# Altium footprint library Connector_PinSocket_2.00mm.PcbLib: 278 footprints (part 15 of 18)
Each footprint in its own frame and in the unit in brackets; x right, y up, seen from the top. Pads: shape width x height; smd on the part's side, far side on the other; paste and mask are expansions set on the pad; w line width, h text height; cw(c..) or ccw(c..) is an arc to the next point about the centre after c.
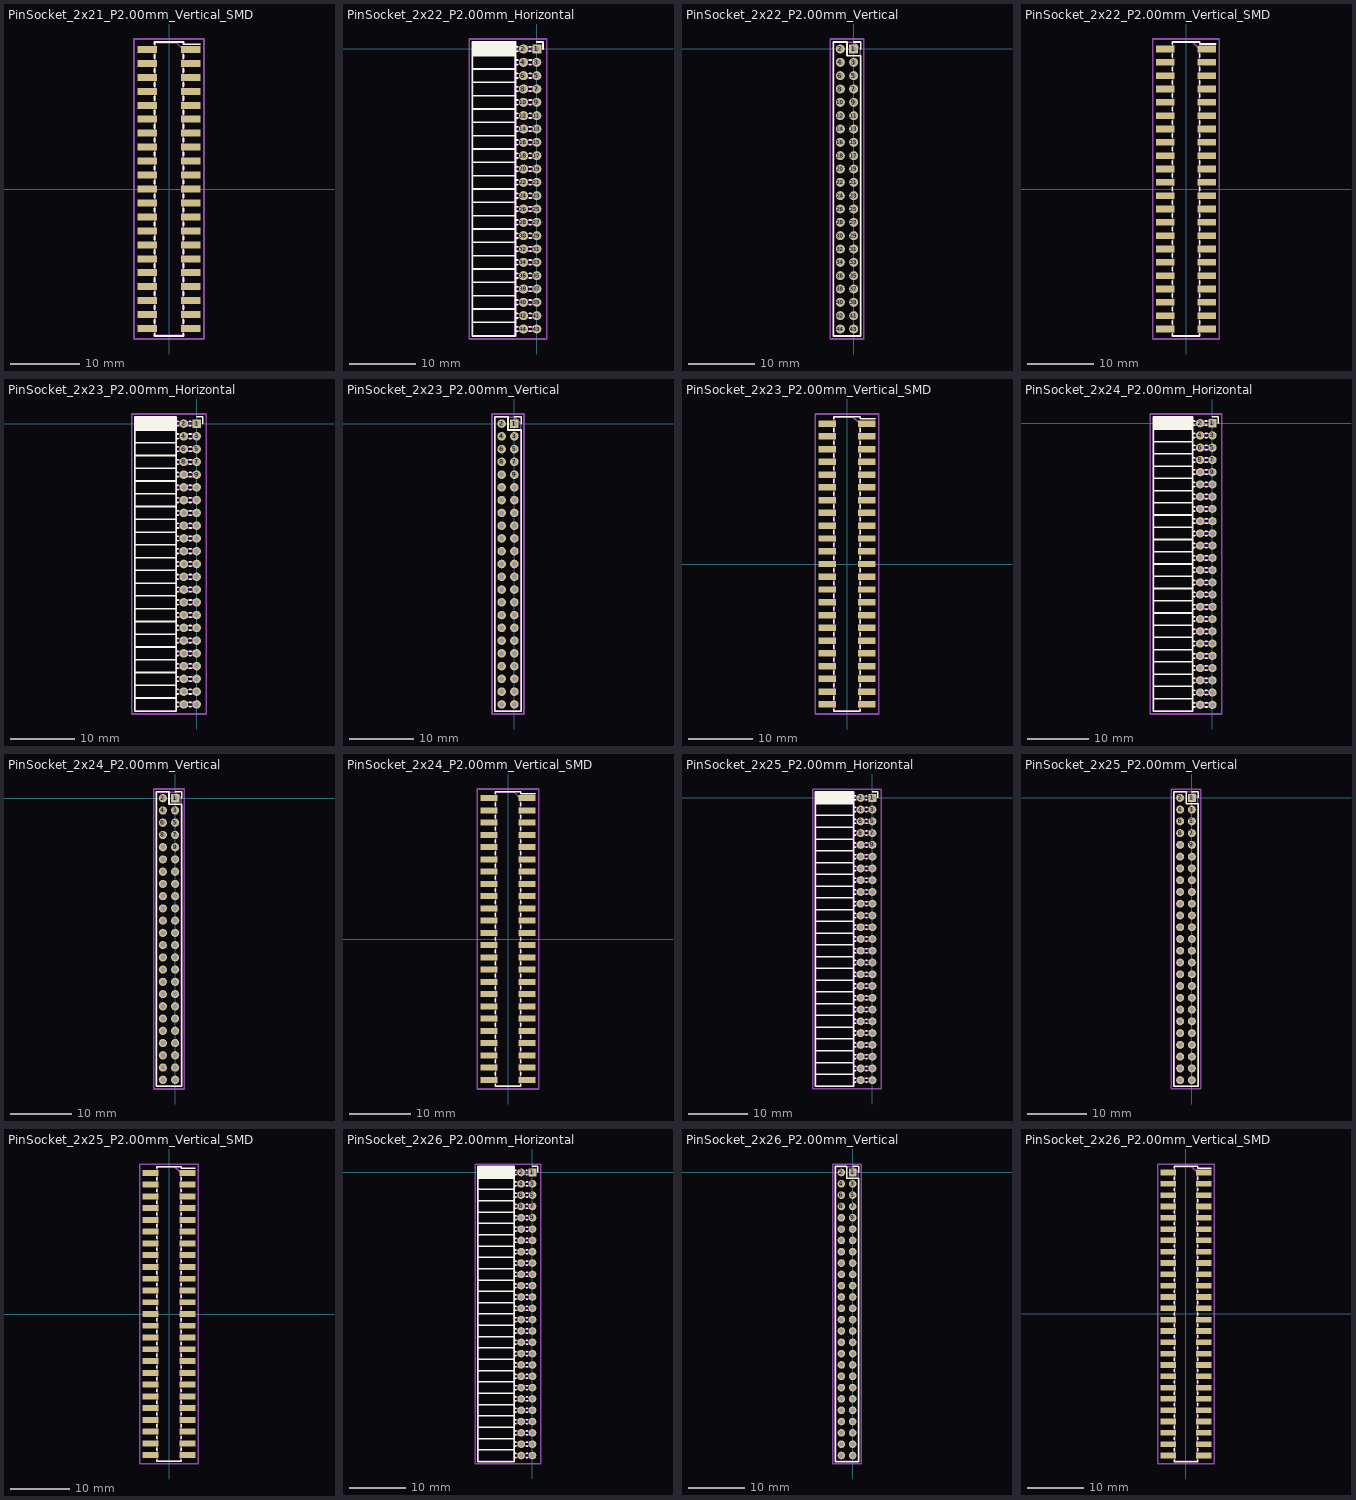
[diagram p14: the footprints below, top view; thin cyan lines are the x and y axes]

## PinSocket_2x21_P2.00mm_Vertical_SMD [mm]
pads (42):
  rect 2.75x1 smd: 1(3.125,20) 2(-3.125,20) 3(3.125,18) 4(-3.125,18) 5(3.125,16) 6(-3.125,16) 7(3.125,14) 8(-3.125,14) 9(3.125,12) 10(-3.125,12) 11(3.125,10) 12(-3.125,10) 13(3.125,8) 14(-3.125,8) 15(3.125,6) 16(-3.125,6) 17(3.125,4) 18(-3.125,4) 19(3.125,2) 20(-3.125,2) 21(3.125,0) 22(-3.125,0) 23(3.125,-2) 24(-3.125,-2) 25(3.125,-4) 26(-3.125,-4) 27(3.125,-6) 28(-3.125,-6) 29(3.125,-8) 30(-3.125,-8) 31(3.125,-10) 32(-3.125,-10) 33(3.125,-12) 34(-3.125,-12) 35(3.125,-14) 36(-3.125,-14) 37(3.125,-16) 38(-3.125,-16) 39(3.125,-18) 40(-3.125,-18) 41(3.125,-20) 42(-3.125,-20)
F.SilkS:
  lines w0.254: -2.06,-20.76 -2.06,-21.06 2.06,-21.06 2.06,-20.76 ; -2.06,-19.24 -2.06,-18.76 ; -2.06,-17.24 -2.06,-16.76 ; -2.06,-15.24 -2.06,-14.76 ; -2.06,-13.24 -2.06,-12.76 ; -2.06,-11.24 -2.06,-10.76 ; -2.06,-9.24 -2.06,-8.76 ; -2.06,-7.24 -2.06,-6.76 ; -2.06,-5.24 -2.06,-4.76 ; -2.06,-3.24 -2.06,-2.76 ; -2.06,-1.24 -2.06,-0.76 ; -2.06,0.76 -2.06,1.24 ; -2.06,2.76 -2.06,3.24 ; -2.06,4.76 -2.06,5.24 ; -2.06,6.76 -2.06,7.24 ; -2.06,8.76 -2.06,9.24 ; -2.06,10.76 -2.06,11.24 ; -2.06,12.76 -2.06,13.24 ; -2.06,14.76 -2.06,15.24 ; -2.06,16.76 -2.06,17.24 ; -2.06,18.76 -2.06,19.24 ; -2.06,20.76 -2.06,21.06 2.06,21.06 2.06,20.76 4.44,20.76 ; 2.06,-19.24 2.06,-18.76 ; 2.06,-17.24 2.06,-16.76 ; 2.06,-15.24 2.06,-14.76 ; 2.06,-13.24 2.06,-12.76 ; 2.06,-11.24 2.06,-10.76 ; 2.06,-9.24 2.06,-8.76 ; 2.06,-7.24 2.06,-6.76 ; 2.06,-5.24 2.06,-4.76 ; 2.06,-3.24 2.06,-2.76 ; 2.06,-1.24 2.06,-0.76 ; 2.06,0.76 2.06,1.24 ; 2.06,2.76 2.06,3.24 ; 2.06,4.76 2.06,5.24 ; 2.06,6.76 2.06,7.24 ; 2.06,8.76 2.06,9.24 ; 2.06,10.76 2.06,11.24 ; 2.06,12.76 2.06,13.24 ; 2.06,14.76 2.06,15.24 ; 2.06,16.76 2.06,17.24 ; 2.06,18.76 2.06,19.24
Top Assembly:
  lines w0.254: -2,-20.25 -3,-20.25 -3,-19.75 -2,-19.75 ; -2,-18.25 -3,-18.25 -3,-17.75 -2,-17.75 ; -2,-16.25 -3,-16.25 -3,-15.75 -2,-15.75 ; -2,-14.25 -3,-14.25 -3,-13.75 -2,-13.75 ; -2,-12.25 -3,-12.25 -3,-11.75 -2,-11.75 ; -2,-10.25 -3,-10.25 -3,-9.75 -2,-9.75 ; -2,-8.25 -3,-8.25 -3,-7.75 -2,-7.75 ; -2,-6.25 -3,-6.25 -3,-5.75 -2,-5.75 ; -2,-4.25 -3,-4.25 -3,-3.75 -2,-3.75 ; -2,-2.25 -3,-2.25 -3,-1.75 -2,-1.75 ; -2,-0.25 -3,-0.25 -3,0.25 -2,0.25 ; -2,1.75 -3,1.75 -3,2.25 -2,2.25 ; -2,3.75 -3,3.75 -3,4.25 -2,4.25 ; -2,5.75 -3,5.75 -3,6.25 -2,6.25 ; -2,7.75 -3,7.75 -3,8.25 -2,8.25 ; -2,9.75 -3,9.75 -3,10.25 -2,10.25 ; -2,11.75 -3,11.75 -3,12.25 -2,12.25 ; -2,13.75 -3,13.75 -3,14.25 -2,14.25 ; -2,15.75 -3,15.75 -3,16.25 -2,16.25 ; -2,17.75 -3,17.75 -3,18.25 -2,18.25 ; -2,19.75 -3,19.75 -3,20.25 -2,20.25 ; 2,-20.25 3,-20.25 3,-19.75 2,-19.75 ; 2,-18.25 3,-18.25 3,-17.75 2,-17.75 ; 2,-16.25 3,-16.25 3,-15.75 2,-15.75 ; 2,-14.25 3,-14.25 3,-13.75 2,-13.75 ; 2,-12.25 3,-12.25 3,-11.75 2,-11.75 ; 2,-10.25 3,-10.25 3,-9.75 2,-9.75 ; 2,-8.25 3,-8.25 3,-7.75 2,-7.75 ; 2,-6.25 3,-6.25 3,-5.75 2,-5.75 ; 2,-4.25 3,-4.25 3,-3.75 2,-3.75 ; 2,-2.25 3,-2.25 3,-1.75 2,-1.75 ; 2,-0.25 3,-0.25 3,0.25 2,0.25 ; 2,1.75 3,1.75 3,2.25 2,2.25 ; 2,3.75 3,3.75 3,4.25 2,4.25 ; 2,5.75 3,5.75 3,6.25 2,6.25 ; 2,7.75 3,7.75 3,8.25 2,8.25 ; 2,9.75 3,9.75 3,10.25 2,10.25 ; 2,11.75 3,11.75 3,12.25 2,12.25 ; 2,13.75 3,13.75 3,14.25 2,14.25 ; 2,15.75 3,15.75 3,16.25 2,16.25 ; 2,17.75 3,17.75 3,18.25 2,18.25 ; 2,19.75 3,19.75 3,20.25 2,20.25 ; -2,-21 2,-21 2,20 1,21 -2,21 -2,-21
  text "'.Designator'" at 0.84,-4.047 h1
Top Courtyard:
  lines w0.254: -5,-21.5 5,-21.5 5,21.5 -5,21.5 -5,-21.5
Top Designator:
  text ".Designator" at -7.618,-0.508 h1.52

## PinSocket_2x22_P2.00mm_Horizontal [mm]
pads (44):
  rect 1.35x1.35 hole 0.8: 1(0,0)
  round 1.35 hole 0.8: 2(-2,0) 3(0,-2) 4(-2,-2) 5(0,-4) 6(-2,-4) 7(0,-6) 8(-2,-6) 9(0,-8) 10(-2,-8) 11(0,-10) 12(-2,-10) 13(0,-12) 14(-2,-12) 15(0,-14) 16(-2,-14) 17(0,-16) 18(-2,-16) 19(0,-18) 20(-2,-18) 21(0,-20) 22(-2,-20) 23(0,-22) 24(-2,-22) 25(0,-24) 26(-2,-24) 27(0,-26) 28(-2,-26) 29(0,-28) 30(-2,-28) 31(0,-30) 32(-2,-30) 33(0,-32) 34(-2,-32) 35(0,-34) 36(-2,-34) 37(0,-36) 38(-2,-36) 39(0,-38) 40(-2,-38) 41(0,-40) 42(-2,-40) 43(0,-42) 44(-2,-42)
F.SilkS:
  lines w0.254: -9.68,-41 -3.21,-41 ; -9.68,-39 -3.21,-39 ; -9.68,-37 -3.21,-37 ; -9.68,-35 -3.21,-35 ; -9.68,-33 -3.21,-33 ; -9.68,-31 -3.21,-31 ; -9.68,-29 -3.21,-29 ; -9.68,-27 -3.21,-27 ; -9.68,-25 -3.21,-25 ; -9.68,-23 -3.21,-23 ; -9.68,-21 -3.21,-21 ; -9.68,-19 -3.21,-19 ; -9.68,-17 -3.21,-17 ; -9.68,-15 -3.21,-15 ; -9.68,-13 -3.21,-13 ; -9.68,-11 -3.21,-11 ; -9.68,-9 -3.21,-9 ; -9.68,-7 -3.21,-7 ; -9.68,-5 -3.21,-5 ; -9.68,-3 -3.21,-3 ; -9.68,-1 -3.21,-1 ; -9.68,-0.886 -3.21,-0.886 ; -9.68,-0.772 -3.21,-0.772 ; -9.68,-0.658 -3.21,-0.658 ; -9.68,-0.544 -3.21,-0.544 ; -9.68,-0.429 -3.21,-0.429 ; -9.68,-0.315 -3.21,-0.315 ; -9.68,-0.201 -3.21,-0.201 ; -9.68,-0.087 -3.21,-0.087 ; -9.68,0.027 -3.21,0.027 ; -9.68,0.141 -3.21,0.141 ; -9.68,0.255 -3.21,0.255 ; -9.68,0.369 -3.21,0.369 ; -9.68,0.484 -3.21,0.484 ; -9.68,0.598 -3.21,0.598 ; -9.68,0.712 -3.21,0.712 ; -9.68,0.826 -3.21,0.826 ; -9.68,0.94 -3.21,0.94 ; -3.21,-42.36 -2.863,-42.36 ; -3.21,-41.64 -2.863,-41.64 ; -3.21,-40.36 -2.863,-40.36 ; -3.21,-39.64 -2.863,-39.64 ; -3.21,-38.36 -2.863,-38.36 ; -3.21,-37.64 -2.863,-37.64 ; -3.21,-36.36 -2.863,-36.36 ; -3.21,-35.64 -2.863,-35.64 ; -3.21,-34.36 -2.863,-34.36 ; -3.21,-33.64 -2.863,-33.64 ; -3.21,-32.36 -2.863,-32.36 ; -3.21,-31.64 -2.863,-31.64 ; -3.21,-30.36 -2.863,-30.36 ; -3.21,-29.64 -2.863,-29.64 ; -3.21,-28.36 -2.863,-28.36 ; -3.21,-27.64 -2.863,-27.64 ; -3.21,-26.36 -2.863,-26.36 ; -3.21,-25.64 -2.863,-25.64 ; -3.21,-24.36 -2.863,-24.36 ; -3.21,-23.64 -2.863,-23.64 ; -3.21,-22.36 -2.863,-22.36 ; -3.21,-21.64 -2.863,-21.64 ; -3.21,-20.36 -2.863,-20.36 ; -3.21,-19.64 -2.863,-19.64 ; -3.21,-18.36 -2.863,-18.36 ; -3.21,-17.64 -2.863,-17.64 ; -3.21,-16.36 -2.863,-16.36 ; -3.21,-15.64 -2.863,-15.64 ; -3.21,-14.36 -2.863,-14.36 ; -3.21,-13.64 -2.863,-13.64 ; -3.21,-12.36 -2.863,-12.36 ; -3.21,-11.64 -2.863,-11.64 ; -3.21,-10.36 -2.863,-10.36 ; -3.21,-9.64 -2.863,-9.64 ; -3.21,-8.36 -2.863,-8.36 ; -3.21,-7.64 -2.863,-7.64 ; -3.21,-6.36 -2.863,-6.36 ; -3.21,-5.64 -2.863,-5.64 ; -3.21,-4.36 -2.863,-4.36 ; -3.21,-3.64 -2.863,-3.64 ; -3.21,-2.36 -2.863,-2.36 ; -3.21,-1.64 -2.863,-1.64 ; -3.21,-0.36 -2.863,-0.36 ; -3.21,0.36 -2.863,0.36 ; -1.137,-42.36 -0.863,-42.36 ; -1.137,-41.64 -0.863,-41.64 ; -1.137,-40.36 -0.863,-40.36 ; -1.137,-39.64 -0.863,-39.64 ; -1.137,-38.36 -0.863,-38.36 ; -1.137,-37.64 -0.863,-37.64 ; -1.137,-36.36 -0.863,-36.36 ; -1.137,-35.64 -0.863,-35.64 ; -1.137,-34.36 -0.863,-34.36 ; -1.137,-33.64 -0.863,-33.64 ; -1.137,-32.36 -0.863,-32.36 ; -1.137,-31.64 -0.863,-31.64 ; -1.137,-30.36 -0.863,-30.36 ; -1.137,-29.64 -0.863,-29.64 ; -1.137,-28.36 -0.863,-28.36 ; -1.137,-27.64 -0.863,-27.64 ; -1.137,-26.36 -0.863,-26.36 ; -1.137,-25.64 -0.863,-25.64 ; -1.137,-24.36 -0.863,-24.36 ; -1.137,-23.64 -0.863,-23.64 ; -1.137,-22.36 -0.863,-22.36 ; -1.137,-21.64 -0.863,-21.64 ; -1.137,-20.36 -0.863,-20.36 ; -1.137,-19.64 -0.863,-19.64 ; -1.137,-18.36 -0.863,-18.36 ; -1.137,-17.64 -0.863,-17.64 ; -1.137,-16.36 -0.863,-16.36 ; -1.137,-15.64 -0.863,-15.64 ; -1.137,-14.36 -0.863,-14.36 ; -1.137,-13.64 -0.863,-13.64 ; -1.137,-12.36 -0.863,-12.36 ; -1.137,-11.64 -0.863,-11.64 ; -1.137,-10.36 -0.863,-10.36 ; -1.137,-9.64 -0.863,-9.64 ; -1.137,-8.36 -0.863,-8.36 ; -1.137,-7.64 -0.863,-7.64 ; -1.137,-6.36 -0.863,-6.36 ; -1.137,-5.64 -0.863,-5.64 ; -1.137,-4.36 -0.863,-4.36 ; -1.137,-3.64 -0.863,-3.64 ; -1.137,-2.36 -0.863,-2.36 ; -1.137,-1.64 -0.863,-1.64 ; -1.137,-0.36 -0.935,-0.36 ; -1.137,0.36 -0.935,0.36 ; 0,1.06 0.935,1.06 0.935,0 ; -9.68,-43.06 -3.21,-43.06 -3.21,1.06 -9.68,1.06 -9.68,-43.06
Top Assembly:
  lines w0.254: -3.27,-42.3 0,-42.3 0,-41.7 -3.27,-41.7 ; -3.27,-40.3 0,-40.3 0,-39.7 -3.27,-39.7 ; -3.27,-38.3 0,-38.3 0,-37.7 -3.27,-37.7 ; -3.27,-36.3 0,-36.3 0,-35.7 -3.27,-35.7 ; -3.27,-34.3 0,-34.3 0,-33.7 -3.27,-33.7 ; -3.27,-32.3 0,-32.3 0,-31.7 -3.27,-31.7 ; -3.27,-30.3 0,-30.3 0,-29.7 -3.27,-29.7 ; -3.27,-28.3 0,-28.3 0,-27.7 -3.27,-27.7 ; -3.27,-26.3 0,-26.3 0,-25.7 -3.27,-25.7 ; -3.27,-24.3 0,-24.3 0,-23.7 -3.27,-23.7 ; -3.27,-22.3 0,-22.3 0,-21.7 -3.27,-21.7 ; -3.27,-20.3 0,-20.3 0,-19.7 -3.27,-19.7 ; -3.27,-18.3 0,-18.3 0,-17.7 -3.27,-17.7 ; -3.27,-16.3 0,-16.3 0,-15.7 -3.27,-15.7 ; -3.27,-14.3 0,-14.3 0,-13.7 -3.27,-13.7 ; -3.27,-12.3 0,-12.3 0,-11.7 -3.27,-11.7 ; -3.27,-10.3 0,-10.3 0,-9.7 -3.27,-9.7 ; -3.27,-8.3 0,-8.3 0,-7.7 -3.27,-7.7 ; -3.27,-6.3 0,-6.3 0,-5.7 -3.27,-5.7 ; -3.27,-4.3 0,-4.3 0,-3.7 -3.27,-3.7 ; -3.27,-2.3 0,-2.3 0,-1.7 -3.27,-1.7 ; -3.27,-0.3 0,-0.3 0,0.3 -3.27,0.3 ; -3.27,0.3 -3.27,-43 -9.62,-43 -9.62,1 -3.97,1 -3.27,0.3
  text "'.Designator'" at -5.605,-25.047 h1
Top Courtyard:
  lines w0.254: -10.15,-43.5 1.5,-43.5 1.5,1.5 -10.15,1.5 -10.15,-43.5
Top Designator:
  text ".Designator" at -11.943,-21.508 h1.52

## PinSocket_2x22_P2.00mm_Vertical [mm]
pads (44):
  rect 1.35x1.35 hole 0.8: 1(0,0)
  round 1.35 hole 0.8: 2(-2,0) 3(0,-2) 4(-2,-2) 5(0,-4) 6(-2,-4) 7(0,-6) 8(-2,-6) 9(0,-8) 10(-2,-8) 11(0,-10) 12(-2,-10) 13(0,-12) 14(-2,-12) 15(0,-14) 16(-2,-14) 17(0,-16) 18(-2,-16) 19(0,-18) 20(-2,-18) 21(0,-20) 22(-2,-20) 23(0,-22) 24(-2,-22) 25(0,-24) 26(-2,-24) 27(0,-26) 28(-2,-26) 29(0,-28) 30(-2,-28) 31(0,-30) 32(-2,-30) 33(0,-32) 34(-2,-32) 35(0,-34) 36(-2,-34) 37(0,-36) 38(-2,-36) 39(0,-38) 40(-2,-38) 41(0,-40) 42(-2,-40) 43(0,-42) 44(-2,-42)
F.SilkS:
  lines w0.254: 0,1.06 1.06,1.06 1.06,0 ; -3.06,-43.06 1.06,-43.06 1.06,-1 -1,-1 -1,1.06 -3.06,1.06 -3.06,-43.06
Top Assembly:
  lines w0.254: -3,-43 1,-43 1,0 0,1 -3,1 -3,-43
  text "'.Designator'" at -0.16,-25.047 h1
Top Courtyard:
  lines w0.254: -3.5,-43.5 1.5,-43.5 1.5,1.5 -3.5,1.5 -3.5,-43.5
Top Designator:
  text ".Designator" at -8.618,-21.508 h1.52

## PinSocket_2x22_P2.00mm_Vertical_SMD [mm]
pads (44):
  rect 2.75x1 smd: 1(3.125,21) 2(-3.125,21) 3(3.125,19) 4(-3.125,19) 5(3.125,17) 6(-3.125,17) 7(3.125,15) 8(-3.125,15) 9(3.125,13) 10(-3.125,13) 11(3.125,11) 12(-3.125,11) 13(3.125,9) 14(-3.125,9) 15(3.125,7) 16(-3.125,7) 17(3.125,5) 18(-3.125,5) 19(3.125,3) 20(-3.125,3) 21(3.125,1) 22(-3.125,1) 23(3.125,-1) 24(-3.125,-1) 25(3.125,-3) 26(-3.125,-3) 27(3.125,-5) 28(-3.125,-5) 29(3.125,-7) 30(-3.125,-7) 31(3.125,-9) 32(-3.125,-9) 33(3.125,-11) 34(-3.125,-11) 35(3.125,-13) 36(-3.125,-13) 37(3.125,-15) 38(-3.125,-15) 39(3.125,-17) 40(-3.125,-17) 41(3.125,-19) 42(-3.125,-19) 43(3.125,-21) 44(-3.125,-21)
F.SilkS:
  lines w0.254: -2.06,-21.76 -2.06,-22.06 2.06,-22.06 2.06,-21.76 ; -2.06,-20.24 -2.06,-19.76 ; -2.06,-18.24 -2.06,-17.76 ; -2.06,-16.24 -2.06,-15.76 ; -2.06,-14.24 -2.06,-13.76 ; -2.06,-12.24 -2.06,-11.76 ; -2.06,-10.24 -2.06,-9.76 ; -2.06,-8.24 -2.06,-7.76 ; -2.06,-6.24 -2.06,-5.76 ; -2.06,-4.24 -2.06,-3.76 ; -2.06,-2.24 -2.06,-1.76 ; -2.06,-0.24 -2.06,0.24 ; -2.06,1.76 -2.06,2.24 ; -2.06,3.76 -2.06,4.24 ; -2.06,5.76 -2.06,6.24 ; -2.06,7.76 -2.06,8.24 ; -2.06,9.76 -2.06,10.24 ; -2.06,11.76 -2.06,12.24 ; -2.06,13.76 -2.06,14.24 ; -2.06,15.76 -2.06,16.24 ; -2.06,17.76 -2.06,18.24 ; -2.06,19.76 -2.06,20.24 ; -2.06,21.76 -2.06,22.06 2.06,22.06 2.06,21.76 4.44,21.76 ; 2.06,-20.24 2.06,-19.76 ; 2.06,-18.24 2.06,-17.76 ; 2.06,-16.24 2.06,-15.76 ; 2.06,-14.24 2.06,-13.76 ; 2.06,-12.24 2.06,-11.76 ; 2.06,-10.24 2.06,-9.76 ; 2.06,-8.24 2.06,-7.76 ; 2.06,-6.24 2.06,-5.76 ; 2.06,-4.24 2.06,-3.76 ; 2.06,-2.24 2.06,-1.76 ; 2.06,-0.24 2.06,0.24 ; 2.06,1.76 2.06,2.24 ; 2.06,3.76 2.06,4.24 ; 2.06,5.76 2.06,6.24 ; 2.06,7.76 2.06,8.24 ; 2.06,9.76 2.06,10.24 ; 2.06,11.76 2.06,12.24 ; 2.06,13.76 2.06,14.24 ; 2.06,15.76 2.06,16.24 ; 2.06,17.76 2.06,18.24 ; 2.06,19.76 2.06,20.24
Top Assembly:
  lines w0.254: -2,-21.25 -3,-21.25 -3,-20.75 -2,-20.75 ; -2,-19.25 -3,-19.25 -3,-18.75 -2,-18.75 ; -2,-17.25 -3,-17.25 -3,-16.75 -2,-16.75 ; -2,-15.25 -3,-15.25 -3,-14.75 -2,-14.75 ; -2,-13.25 -3,-13.25 -3,-12.75 -2,-12.75 ; -2,-11.25 -3,-11.25 -3,-10.75 -2,-10.75 ; -2,-9.25 -3,-9.25 -3,-8.75 -2,-8.75 ; -2,-7.25 -3,-7.25 -3,-6.75 -2,-6.75 ; -2,-5.25 -3,-5.25 -3,-4.75 -2,-4.75 ; -2,-3.25 -3,-3.25 -3,-2.75 -2,-2.75 ; -2,-1.25 -3,-1.25 -3,-0.75 -2,-0.75 ; -2,0.75 -3,0.75 -3,1.25 -2,1.25 ; -2,2.75 -3,2.75 -3,3.25 -2,3.25 ; -2,4.75 -3,4.75 -3,5.25 -2,5.25 ; -2,6.75 -3,6.75 -3,7.25 -2,7.25 ; -2,8.75 -3,8.75 -3,9.25 -2,9.25 ; -2,10.75 -3,10.75 -3,11.25 -2,11.25 ; -2,12.75 -3,12.75 -3,13.25 -2,13.25 ; -2,14.75 -3,14.75 -3,15.25 -2,15.25 ; -2,16.75 -3,16.75 -3,17.25 -2,17.25 ; -2,18.75 -3,18.75 -3,19.25 -2,19.25 ; -2,20.75 -3,20.75 -3,21.25 -2,21.25 ; 2,-21.25 3,-21.25 3,-20.75 2,-20.75 ; 2,-19.25 3,-19.25 3,-18.75 2,-18.75 ; 2,-17.25 3,-17.25 3,-16.75 2,-16.75 ; 2,-15.25 3,-15.25 3,-14.75 2,-14.75 ; 2,-13.25 3,-13.25 3,-12.75 2,-12.75 ; 2,-11.25 3,-11.25 3,-10.75 2,-10.75 ; 2,-9.25 3,-9.25 3,-8.75 2,-8.75 ; 2,-7.25 3,-7.25 3,-6.75 2,-6.75 ; 2,-5.25 3,-5.25 3,-4.75 2,-4.75 ; 2,-3.25 3,-3.25 3,-2.75 2,-2.75 ; 2,-1.25 3,-1.25 3,-0.75 2,-0.75 ; 2,0.75 3,0.75 3,1.25 2,1.25 ; 2,2.75 3,2.75 3,3.25 2,3.25 ; 2,4.75 3,4.75 3,5.25 2,5.25 ; 2,6.75 3,6.75 3,7.25 2,7.25 ; 2,8.75 3,8.75 3,9.25 2,9.25 ; 2,10.75 3,10.75 3,11.25 2,11.25 ; 2,12.75 3,12.75 3,13.25 2,13.25 ; 2,14.75 3,14.75 3,15.25 2,15.25 ; 2,16.75 3,16.75 3,17.25 2,17.25 ; 2,18.75 3,18.75 3,19.25 2,19.25 ; 2,20.75 3,20.75 3,21.25 2,21.25 ; -2,-22 2,-22 2,21 1,22 -2,22 -2,-22
  text "'.Designator'" at 0.84,-4.047 h1
Top Courtyard:
  lines w0.254: -5,-22.5 5,-22.5 5,22.5 -5,22.5 -5,-22.5
Top Designator:
  text ".Designator" at -7.618,-0.508 h1.52

## PinSocket_2x23_P2.00mm_Horizontal [mm]
pads (46):
  rect 1.35x1.35 hole 0.8: 1(0,0)
  round 1.35 hole 0.8: 2(-2,0) 3(0,-2) 4(-2,-2) 5(0,-4) 6(-2,-4) 7(0,-6) 8(-2,-6) 9(0,-8) 10(-2,-8) 11(0,-10) 12(-2,-10) 13(0,-12) 14(-2,-12) 15(0,-14) 16(-2,-14) 17(0,-16) 18(-2,-16) 19(0,-18) 20(-2,-18) 21(0,-20) 22(-2,-20) 23(0,-22) 24(-2,-22) 25(0,-24) 26(-2,-24) 27(0,-26) 28(-2,-26) 29(0,-28) 30(-2,-28) 31(0,-30) 32(-2,-30) 33(0,-32) 34(-2,-32) 35(0,-34) 36(-2,-34) 37(0,-36) 38(-2,-36) 39(0,-38) 40(-2,-38) 41(0,-40) 42(-2,-40) 43(0,-42) 44(-2,-42) 45(0,-44) 46(-2,-44)
F.SilkS:
  lines w0.254: -9.68,-43 -3.21,-43 ; -9.68,-41 -3.21,-41 ; -9.68,-39 -3.21,-39 ; -9.68,-37 -3.21,-37 ; -9.68,-35 -3.21,-35 ; -9.68,-33 -3.21,-33 ; -9.68,-31 -3.21,-31 ; -9.68,-29 -3.21,-29 ; -9.68,-27 -3.21,-27 ; -9.68,-25 -3.21,-25 ; -9.68,-23 -3.21,-23 ; -9.68,-21 -3.21,-21 ; -9.68,-19 -3.21,-19 ; -9.68,-17 -3.21,-17 ; -9.68,-15 -3.21,-15 ; -9.68,-13 -3.21,-13 ; -9.68,-11 -3.21,-11 ; -9.68,-9 -3.21,-9 ; -9.68,-7 -3.21,-7 ; -9.68,-5 -3.21,-5 ; -9.68,-3 -3.21,-3 ; -9.68,-1 -3.21,-1 ; -9.68,-0.886 -3.21,-0.886 ; -9.68,-0.772 -3.21,-0.772 ; -9.68,-0.658 -3.21,-0.658 ; -9.68,-0.544 -3.21,-0.544 ; -9.68,-0.429 -3.21,-0.429 ; -9.68,-0.315 -3.21,-0.315 ; -9.68,-0.201 -3.21,-0.201 ; -9.68,-0.087 -3.21,-0.087 ; -9.68,0.027 -3.21,0.027 ; -9.68,0.141 -3.21,0.141 ; -9.68,0.255 -3.21,0.255 ; -9.68,0.369 -3.21,0.369 ; -9.68,0.484 -3.21,0.484 ; -9.68,0.598 -3.21,0.598 ; -9.68,0.712 -3.21,0.712 ; -9.68,0.826 -3.21,0.826 ; -9.68,0.94 -3.21,0.94 ; -3.21,-44.36 -2.863,-44.36 ; -3.21,-43.64 -2.863,-43.64 ; -3.21,-42.36 -2.863,-42.36 ; -3.21,-41.64 -2.863,-41.64 ; -3.21,-40.36 -2.863,-40.36 ; -3.21,-39.64 -2.863,-39.64 ; -3.21,-38.36 -2.863,-38.36 ; -3.21,-37.64 -2.863,-37.64 ; -3.21,-36.36 -2.863,-36.36 ; -3.21,-35.64 -2.863,-35.64 ; -3.21,-34.36 -2.863,-34.36 ; -3.21,-33.64 -2.863,-33.64 ; -3.21,-32.36 -2.863,-32.36 ; -3.21,-31.64 -2.863,-31.64 ; -3.21,-30.36 -2.863,-30.36 ; -3.21,-29.64 -2.863,-29.64 ; -3.21,-28.36 -2.863,-28.36 ; -3.21,-27.64 -2.863,-27.64 ; -3.21,-26.36 -2.863,-26.36 ; -3.21,-25.64 -2.863,-25.64 ; -3.21,-24.36 -2.863,-24.36 ; -3.21,-23.64 -2.863,-23.64 ; -3.21,-22.36 -2.863,-22.36 ; -3.21,-21.64 -2.863,-21.64 ; -3.21,-20.36 -2.863,-20.36 ; -3.21,-19.64 -2.863,-19.64 ; -3.21,-18.36 -2.863,-18.36 ; -3.21,-17.64 -2.863,-17.64 ; -3.21,-16.36 -2.863,-16.36 ; -3.21,-15.64 -2.863,-15.64 ; -3.21,-14.36 -2.863,-14.36 ; -3.21,-13.64 -2.863,-13.64 ; -3.21,-12.36 -2.863,-12.36 ; -3.21,-11.64 -2.863,-11.64 ; -3.21,-10.36 -2.863,-10.36 ; -3.21,-9.64 -2.863,-9.64 ; -3.21,-8.36 -2.863,-8.36 ; -3.21,-7.64 -2.863,-7.64 ; -3.21,-6.36 -2.863,-6.36 ; -3.21,-5.64 -2.863,-5.64 ; -3.21,-4.36 -2.863,-4.36 ; -3.21,-3.64 -2.863,-3.64 ; -3.21,-2.36 -2.863,-2.36 ; -3.21,-1.64 -2.863,-1.64 ; -3.21,-0.36 -2.863,-0.36 ; -3.21,0.36 -2.863,0.36 ; -1.137,-44.36 -0.863,-44.36 ; -1.137,-43.64 -0.863,-43.64 ; -1.137,-42.36 -0.863,-42.36 ; -1.137,-41.64 -0.863,-41.64 ; -1.137,-40.36 -0.863,-40.36 ; -1.137,-39.64 -0.863,-39.64 ; -1.137,-38.36 -0.863,-38.36 ; -1.137,-37.64 -0.863,-37.64 ; -1.137,-36.36 -0.863,-36.36 ; -1.137,-35.64 -0.863,-35.64 ; -1.137,-34.36 -0.863,-34.36 ; -1.137,-33.64 -0.863,-33.64 ; -1.137,-32.36 -0.863,-32.36 ; -1.137,-31.64 -0.863,-31.64 ; -1.137,-30.36 -0.863,-30.36 ; -1.137,-29.64 -0.863,-29.64 ; -1.137,-28.36 -0.863,-28.36 ; -1.137,-27.64 -0.863,-27.64 ; -1.137,-26.36 -0.863,-26.36 ; -1.137,-25.64 -0.863,-25.64 ; -1.137,-24.36 -0.863,-24.36 ; -1.137,-23.64 -0.863,-23.64 ; -1.137,-22.36 -0.863,-22.36 ; -1.137,-21.64 -0.863,-21.64 ; -1.137,-20.36 -0.863,-20.36 ; -1.137,-19.64 -0.863,-19.64 ; -1.137,-18.36 -0.863,-18.36 ; -1.137,-17.64 -0.863,-17.64 ; -1.137,-16.36 -0.863,-16.36 ; -1.137,-15.64 -0.863,-15.64 ; -1.137,-14.36 -0.863,-14.36 ; -1.137,-13.64 -0.863,-13.64 ; -1.137,-12.36 -0.863,-12.36 ; -1.137,-11.64 -0.863,-11.64 ; -1.137,-10.36 -0.863,-10.36 ; -1.137,-9.64 -0.863,-9.64 ; -1.137,-8.36 -0.863,-8.36 ; -1.137,-7.64 -0.863,-7.64 ; -1.137,-6.36 -0.863,-6.36 ; -1.137,-5.64 -0.863,-5.64 ; -1.137,-4.36 -0.863,-4.36 ; -1.137,-3.64 -0.863,-3.64 ; -1.137,-2.36 -0.863,-2.36 ; -1.137,-1.64 -0.863,-1.64 ; -1.137,-0.36 -0.935,-0.36 ; -1.137,0.36 -0.935,0.36 ; 0,1.06 0.935,1.06 0.935,0 ; -9.68,-45.06 -3.21,-45.06 -3.21,1.06 -9.68,1.06 -9.68,-45.06
Top Assembly:
  lines w0.254: -3.27,-44.3 0,-44.3 0,-43.7 -3.27,-43.7 ; -3.27,-42.3 0,-42.3 0,-41.7 -3.27,-41.7 ; -3.27,-40.3 0,-40.3 0,-39.7 -3.27,-39.7 ; -3.27,-38.3 0,-38.3 0,-37.7 -3.27,-37.7 ; -3.27,-36.3 0,-36.3 0,-35.7 -3.27,-35.7 ; -3.27,-34.3 0,-34.3 0,-33.7 -3.27,-33.7 ; -3.27,-32.3 0,-32.3 0,-31.7 -3.27,-31.7 ; -3.27,-30.3 0,-30.3 0,-29.7 -3.27,-29.7 ; -3.27,-28.3 0,-28.3 0,-27.7 -3.27,-27.7 ; -3.27,-26.3 0,-26.3 0,-25.7 -3.27,-25.7 ; -3.27,-24.3 0,-24.3 0,-23.7 -3.27,-23.7 ; -3.27,-22.3 0,-22.3 0,-21.7 -3.27,-21.7 ; -3.27,-20.3 0,-20.3 0,-19.7 -3.27,-19.7 ; -3.27,-18.3 0,-18.3 0,-17.7 -3.27,-17.7 ; -3.27,-16.3 0,-16.3 0,-15.7 -3.27,-15.7 ; -3.27,-14.3 0,-14.3 0,-13.7 -3.27,-13.7 ; -3.27,-12.3 0,-12.3 0,-11.7 -3.27,-11.7 ; -3.27,-10.3 0,-10.3 0,-9.7 -3.27,-9.7 ; -3.27,-8.3 0,-8.3 0,-7.7 -3.27,-7.7 ; -3.27,-6.3 0,-6.3 0,-5.7 -3.27,-5.7 ; -3.27,-4.3 0,-4.3 0,-3.7 -3.27,-3.7 ; -3.27,-2.3 0,-2.3 0,-1.7 -3.27,-1.7 ; -3.27,-0.3 0,-0.3 0,0.3 -3.27,0.3 ; -3.27,0.3 -3.27,-45 -9.62,-45 -9.62,1 -3.97,1 -3.27,0.3
  text "'.Designator'" at -5.605,-26.047 h1
Top Courtyard:
  lines w0.254: -10.15,-45.5 1.5,-45.5 1.5,1.5 -10.15,1.5 -10.15,-45.5
Top Designator:
  text ".Designator" at -11.943,-22.508 h1.52

## PinSocket_2x23_P2.00mm_Vertical [mm]
pads (46):
  rect 1.35x1.35 hole 0.8: 1(0,0)
  round 1.35 hole 0.8: 2(-2,0) 3(0,-2) 4(-2,-2) 5(0,-4) 6(-2,-4) 7(0,-6) 8(-2,-6) 9(0,-8) 10(-2,-8) 11(0,-10) 12(-2,-10) 13(0,-12) 14(-2,-12) 15(0,-14) 16(-2,-14) 17(0,-16) 18(-2,-16) 19(0,-18) 20(-2,-18) 21(0,-20) 22(-2,-20) 23(0,-22) 24(-2,-22) 25(0,-24) 26(-2,-24) 27(0,-26) 28(-2,-26) 29(0,-28) 30(-2,-28) 31(0,-30) 32(-2,-30) 33(0,-32) 34(-2,-32) 35(0,-34) 36(-2,-34) 37(0,-36) 38(-2,-36) 39(0,-38) 40(-2,-38) 41(0,-40) 42(-2,-40) 43(0,-42) 44(-2,-42) 45(0,-44) 46(-2,-44)
F.SilkS:
  lines w0.254: 0,1.06 1.06,1.06 1.06,0 ; -3.06,-45.06 1.06,-45.06 1.06,-1 -1,-1 -1,1.06 -3.06,1.06 -3.06,-45.06
Top Assembly:
  lines w0.254: -3,-45 1,-45 1,0 0,1 -3,1 -3,-45
  text "'.Designator'" at -0.16,-26.047 h1
Top Courtyard:
  lines w0.254: -3.5,-45.5 1.5,-45.5 1.5,1.5 -3.5,1.5 -3.5,-45.5
Top Designator:
  text ".Designator" at -8.618,-22.508 h1.52

## PinSocket_2x23_P2.00mm_Vertical_SMD [mm]
pads (46):
  rect 2.75x1 smd: 1(3.125,22) 2(-3.125,22) 3(3.125,20) 4(-3.125,20) 5(3.125,18) 6(-3.125,18) 7(3.125,16) 8(-3.125,16) 9(3.125,14) 10(-3.125,14) 11(3.125,12) 12(-3.125,12) 13(3.125,10) 14(-3.125,10) 15(3.125,8) 16(-3.125,8) 17(3.125,6) 18(-3.125,6) 19(3.125,4) 20(-3.125,4) 21(3.125,2) 22(-3.125,2) 23(3.125,0) 24(-3.125,0) 25(3.125,-2) 26(-3.125,-2) 27(3.125,-4) 28(-3.125,-4) 29(3.125,-6) 30(-3.125,-6) 31(3.125,-8) 32(-3.125,-8) 33(3.125,-10) 34(-3.125,-10) 35(3.125,-12) 36(-3.125,-12) 37(3.125,-14) 38(-3.125,-14) 39(3.125,-16) 40(-3.125,-16) 41(3.125,-18) 42(-3.125,-18) 43(3.125,-20) 44(-3.125,-20) 45(3.125,-22) 46(-3.125,-22)
F.SilkS:
  lines w0.254: -2.06,-22.76 -2.06,-23.06 2.06,-23.06 2.06,-22.76 ; -2.06,-21.24 -2.06,-20.76 ; -2.06,-19.24 -2.06,-18.76 ; -2.06,-17.24 -2.06,-16.76 ; -2.06,-15.24 -2.06,-14.76 ; -2.06,-13.24 -2.06,-12.76 ; -2.06,-11.24 -2.06,-10.76 ; -2.06,-9.24 -2.06,-8.76 ; -2.06,-7.24 -2.06,-6.76 ; -2.06,-5.24 -2.06,-4.76 ; -2.06,-3.24 -2.06,-2.76 ; -2.06,-1.24 -2.06,-0.76 ; -2.06,0.76 -2.06,1.24 ; -2.06,2.76 -2.06,3.24 ; -2.06,4.76 -2.06,5.24 ; -2.06,6.76 -2.06,7.24 ; -2.06,8.76 -2.06,9.24 ; -2.06,10.76 -2.06,11.24 ; -2.06,12.76 -2.06,13.24 ; -2.06,14.76 -2.06,15.24 ; -2.06,16.76 -2.06,17.24 ; -2.06,18.76 -2.06,19.24 ; -2.06,20.76 -2.06,21.24 ; -2.06,22.76 -2.06,23.06 2.06,23.06 2.06,22.76 4.44,22.76 ; 2.06,-21.24 2.06,-20.76 ; 2.06,-19.24 2.06,-18.76 ; 2.06,-17.24 2.06,-16.76 ; 2.06,-15.24 2.06,-14.76 ; 2.06,-13.24 2.06,-12.76 ; 2.06,-11.24 2.06,-10.76 ; 2.06,-9.24 2.06,-8.76 ; 2.06,-7.24 2.06,-6.76 ; 2.06,-5.24 2.06,-4.76 ; 2.06,-3.24 2.06,-2.76 ; 2.06,-1.24 2.06,-0.76 ; 2.06,0.76 2.06,1.24 ; 2.06,2.76 2.06,3.24 ; 2.06,4.76 2.06,5.24 ; 2.06,6.76 2.06,7.24 ; 2.06,8.76 2.06,9.24 ; 2.06,10.76 2.06,11.24 ; 2.06,12.76 2.06,13.24 ; 2.06,14.76 2.06,15.24 ; 2.06,16.76 2.06,17.24 ; 2.06,18.76 2.06,19.24 ; 2.06,20.76 2.06,21.24
Top Assembly:
  lines w0.254: -2,-22.25 -3,-22.25 -3,-21.75 -2,-21.75 ; -2,-20.25 -3,-20.25 -3,-19.75 -2,-19.75 ; -2,-18.25 -3,-18.25 -3,-17.75 -2,-17.75 ; -2,-16.25 -3,-16.25 -3,-15.75 -2,-15.75 ; -2,-14.25 -3,-14.25 -3,-13.75 -2,-13.75 ; -2,-12.25 -3,-12.25 -3,-11.75 -2,-11.75 ; -2,-10.25 -3,-10.25 -3,-9.75 -2,-9.75 ; -2,-8.25 -3,-8.25 -3,-7.75 -2,-7.75 ; -2,-6.25 -3,-6.25 -3,-5.75 -2,-5.75 ; -2,-4.25 -3,-4.25 -3,-3.75 -2,-3.75 ; -2,-2.25 -3,-2.25 -3,-1.75 -2,-1.75 ; -2,-0.25 -3,-0.25 -3,0.25 -2,0.25 ; -2,1.75 -3,1.75 -3,2.25 -2,2.25 ; -2,3.75 -3,3.75 -3,4.25 -2,4.25 ; -2,5.75 -3,5.75 -3,6.25 -2,6.25 ; -2,7.75 -3,7.75 -3,8.25 -2,8.25 ; -2,9.75 -3,9.75 -3,10.25 -2,10.25 ; -2,11.75 -3,11.75 -3,12.25 -2,12.25 ; -2,13.75 -3,13.75 -3,14.25 -2,14.25 ; -2,15.75 -3,15.75 -3,16.25 -2,16.25 ; -2,17.75 -3,17.75 -3,18.25 -2,18.25 ; -2,19.75 -3,19.75 -3,20.25 -2,20.25 ; -2,21.75 -3,21.75 -3,22.25 -2,22.25 ; 2,-22.25 3,-22.25 3,-21.75 2,-21.75 ; 2,-20.25 3,-20.25 3,-19.75 2,-19.75 ; 2,-18.25 3,-18.25 3,-17.75 2,-17.75 ; 2,-16.25 3,-16.25 3,-15.75 2,-15.75 ; 2,-14.25 3,-14.25 3,-13.75 2,-13.75 ; 2,-12.25 3,-12.25 3,-11.75 2,-11.75 ; 2,-10.25 3,-10.25 3,-9.75 2,-9.75 ; 2,-8.25 3,-8.25 3,-7.75 2,-7.75 ; 2,-6.25 3,-6.25 3,-5.75 2,-5.75 ; 2,-4.25 3,-4.25 3,-3.75 2,-3.75 ; 2,-2.25 3,-2.25 3,-1.75 2,-1.75 ; 2,-0.25 3,-0.25 3,0.25 2,0.25 ; 2,1.75 3,1.75 3,2.25 2,2.25 ; 2,3.75 3,3.75 3,4.25 2,4.25 ; 2,5.75 3,5.75 3,6.25 2,6.25 ; 2,7.75 3,7.75 3,8.25 2,8.25 ; 2,9.75 3,9.75 3,10.25 2,10.25 ; 2,11.75 3,11.75 3,12.25 2,12.25 ; 2,13.75 3,13.75 3,14.25 2,14.25 ; 2,15.75 3,15.75 3,16.25 2,16.25 ; 2,17.75 3,17.75 3,18.25 2,18.25 ; 2,19.75 3,19.75 3,20.25 2,20.25 ; 2,21.75 3,21.75 3,22.25 2,22.25 ; -2,-23 2,-23 2,22 1,23 -2,23 -2,-23
  text "'.Designator'" at 0.84,-4.047 h1
Top Courtyard:
  lines w0.254: -5,-23.5 5,-23.5 5,23.5 -5,23.5 -5,-23.5
Top Designator:
  text ".Designator" at -7.618,-0.508 h1.52

## PinSocket_2x24_P2.00mm_Horizontal [mm]
pads (48):
  rect 1.35x1.35 hole 0.8: 1(0,0)
  round 1.35 hole 0.8: 2(-2,0) 3(0,-2) 4(-2,-2) 5(0,-4) 6(-2,-4) 7(0,-6) 8(-2,-6) 9(0,-8) 10(-2,-8) 11(0,-10) 12(-2,-10) 13(0,-12) 14(-2,-12) 15(0,-14) 16(-2,-14) 17(0,-16) 18(-2,-16) 19(0,-18) 20(-2,-18) 21(0,-20) 22(-2,-20) 23(0,-22) 24(-2,-22) 25(0,-24) 26(-2,-24) 27(0,-26) 28(-2,-26) 29(0,-28) 30(-2,-28) 31(0,-30) 32(-2,-30) 33(0,-32) 34(-2,-32) 35(0,-34) 36(-2,-34) 37(0,-36) 38(-2,-36) 39(0,-38) 40(-2,-38) 41(0,-40) 42(-2,-40) 43(0,-42) 44(-2,-42) 45(0,-44) 46(-2,-44) 47(0,-46) 48(-2,-46)
F.SilkS:
  lines w0.254: -9.68,-45 -3.21,-45 ; -9.68,-43 -3.21,-43 ; -9.68,-41 -3.21,-41 ; -9.68,-39 -3.21,-39 ; -9.68,-37 -3.21,-37 ; -9.68,-35 -3.21,-35 ; -9.68,-33 -3.21,-33 ; -9.68,-31 -3.21,-31 ; -9.68,-29 -3.21,-29 ; -9.68,-27 -3.21,-27 ; -9.68,-25 -3.21,-25 ; -9.68,-23 -3.21,-23 ; -9.68,-21 -3.21,-21 ; -9.68,-19 -3.21,-19 ; -9.68,-17 -3.21,-17 ; -9.68,-15 -3.21,-15 ; -9.68,-13 -3.21,-13 ; -9.68,-11 -3.21,-11 ; -9.68,-9 -3.21,-9 ; -9.68,-7 -3.21,-7 ; -9.68,-5 -3.21,-5 ; -9.68,-3 -3.21,-3 ; -9.68,-1 -3.21,-1 ; -9.68,-0.886 -3.21,-0.886 ; -9.68,-0.772 -3.21,-0.772 ; -9.68,-0.658 -3.21,-0.658 ; -9.68,-0.544 -3.21,-0.544 ; -9.68,-0.429 -3.21,-0.429 ; -9.68,-0.315 -3.21,-0.315 ; -9.68,-0.201 -3.21,-0.201 ; -9.68,-0.087 -3.21,-0.087 ; -9.68,0.027 -3.21,0.027 ; -9.68,0.141 -3.21,0.141 ; -9.68,0.255 -3.21,0.255 ; -9.68,0.369 -3.21,0.369 ; -9.68,0.484 -3.21,0.484 ; -9.68,0.598 -3.21,0.598 ; -9.68,0.712 -3.21,0.712 ; -9.68,0.826 -3.21,0.826 ; -9.68,0.94 -3.21,0.94 ; -3.21,-46.36 -2.863,-46.36 ; -3.21,-45.64 -2.863,-45.64 ; -3.21,-44.36 -2.863,-44.36 ; -3.21,-43.64 -2.863,-43.64 ; -3.21,-42.36 -2.863,-42.36 ; -3.21,-41.64 -2.863,-41.64 ; -3.21,-40.36 -2.863,-40.36 ; -3.21,-39.64 -2.863,-39.64 ; -3.21,-38.36 -2.863,-38.36 ; -3.21,-37.64 -2.863,-37.64 ; -3.21,-36.36 -2.863,-36.36 ; -3.21,-35.64 -2.863,-35.64 ; -3.21,-34.36 -2.863,-34.36 ; -3.21,-33.64 -2.863,-33.64 ; -3.21,-32.36 -2.863,-32.36 ; -3.21,-31.64 -2.863,-31.64 ; -3.21,-30.36 -2.863,-30.36 ; -3.21,-29.64 -2.863,-29.64 ; -3.21,-28.36 -2.863,-28.36 ; -3.21,-27.64 -2.863,-27.64 ; -3.21,-26.36 -2.863,-26.36 ; -3.21,-25.64 -2.863,-25.64 ; -3.21,-24.36 -2.863,-24.36 ; -3.21,-23.64 -2.863,-23.64 ; -3.21,-22.36 -2.863,-22.36 ; -3.21,-21.64 -2.863,-21.64 ; -3.21,-20.36 -2.863,-20.36 ; -3.21,-19.64 -2.863,-19.64 ; -3.21,-18.36 -2.863,-18.36 ; -3.21,-17.64 -2.863,-17.64 ; -3.21,-16.36 -2.863,-16.36 ; -3.21,-15.64 -2.863,-15.64 ; -3.21,-14.36 -2.863,-14.36 ; -3.21,-13.64 -2.863,-13.64 ; -3.21,-12.36 -2.863,-12.36 ; -3.21,-11.64 -2.863,-11.64 ; -3.21,-10.36 -2.863,-10.36 ; -3.21,-9.64 -2.863,-9.64 ; -3.21,-8.36 -2.863,-8.36 ; -3.21,-7.64 -2.863,-7.64 ; -3.21,-6.36 -2.863,-6.36 ; -3.21,-5.64 -2.863,-5.64 ; -3.21,-4.36 -2.863,-4.36 ; -3.21,-3.64 -2.863,-3.64 ; -3.21,-2.36 -2.863,-2.36 ; -3.21,-1.64 -2.863,-1.64 ; -3.21,-0.36 -2.863,-0.36 ; -3.21,0.36 -2.863,0.36 ; -1.137,-46.36 -0.863,-46.36 ; -1.137,-45.64 -0.863,-45.64 ; -1.137,-44.36 -0.863,-44.36 ; -1.137,-43.64 -0.863,-43.64 ; -1.137,-42.36 -0.863,-42.36 ; -1.137,-41.64 -0.863,-41.64 ; -1.137,-40.36 -0.863,-40.36 ; -1.137,-39.64 -0.863,-39.64 ; -1.137,-38.36 -0.863,-38.36 ; -1.137,-37.64 -0.863,-37.64 ; -1.137,-36.36 -0.863,-36.36 ; -1.137,-35.64 -0.863,-35.64 ; -1.137,-34.36 -0.863,-34.36 ; -1.137,-33.64 -0.863,-33.64 ; -1.137,-32.36 -0.863,-32.36 ; -1.137,-31.64 -0.863,-31.64 ; -1.137,-30.36 -0.863,-30.36 ; -1.137,-29.64 -0.863,-29.64 ; -1.137,-28.36 -0.863,-28.36 ; -1.137,-27.64 -0.863,-27.64 ; -1.137,-26.36 -0.863,-26.36 ; -1.137,-25.64 -0.863,-25.64 ; -1.137,-24.36 -0.863,-24.36 ; -1.137,-23.64 -0.863,-23.64 ; -1.137,-22.36 -0.863,-22.36 ; -1.137,-21.64 -0.863,-21.64 ; -1.137,-20.36 -0.863,-20.36 ; -1.137,-19.64 -0.863,-19.64 ; -1.137,-18.36 -0.863,-18.36 ; -1.137,-17.64 -0.863,-17.64 ; -1.137,-16.36 -0.863,-16.36 ; -1.137,-15.64 -0.863,-15.64 ; -1.137,-14.36 -0.863,-14.36 ; -1.137,-13.64 -0.863,-13.64 ; -1.137,-12.36 -0.863,-12.36 ; -1.137,-11.64 -0.863,-11.64 ; -1.137,-10.36 -0.863,-10.36 ; -1.137,-9.64 -0.863,-9.64 ; -1.137,-8.36 -0.863,-8.36 ; -1.137,-7.64 -0.863,-7.64 ; -1.137,-6.36 -0.863,-6.36 ; -1.137,-5.64 -0.863,-5.64 ; -1.137,-4.36 -0.863,-4.36 ; -1.137,-3.64 -0.863,-3.64 ; -1.137,-2.36 -0.863,-2.36 ; -1.137,-1.64 -0.863,-1.64 ; -1.137,-0.36 -0.935,-0.36 ; -1.137,0.36 -0.935,0.36 ; 0,1.06 0.935,1.06 0.935,0 ; -9.68,-47.06 -3.21,-47.06 -3.21,1.06 -9.68,1.06 -9.68,-47.06
Top Assembly:
  lines w0.254: -3.27,-46.3 0,-46.3 0,-45.7 -3.27,-45.7 ; -3.27,-44.3 0,-44.3 0,-43.7 -3.27,-43.7 ; -3.27,-42.3 0,-42.3 0,-41.7 -3.27,-41.7 ; -3.27,-40.3 0,-40.3 0,-39.7 -3.27,-39.7 ; -3.27,-38.3 0,-38.3 0,-37.7 -3.27,-37.7 ; -3.27,-36.3 0,-36.3 0,-35.7 -3.27,-35.7 ; -3.27,-34.3 0,-34.3 0,-33.7 -3.27,-33.7 ; -3.27,-32.3 0,-32.3 0,-31.7 -3.27,-31.7 ; -3.27,-30.3 0,-30.3 0,-29.7 -3.27,-29.7 ; -3.27,-28.3 0,-28.3 0,-27.7 -3.27,-27.7 ; -3.27,-26.3 0,-26.3 0,-25.7 -3.27,-25.7 ; -3.27,-24.3 0,-24.3 0,-23.7 -3.27,-23.7 ; -3.27,-22.3 0,-22.3 0,-21.7 -3.27,-21.7 ; -3.27,-20.3 0,-20.3 0,-19.7 -3.27,-19.7 ; -3.27,-18.3 0,-18.3 0,-17.7 -3.27,-17.7 ; -3.27,-16.3 0,-16.3 0,-15.7 -3.27,-15.7 ; -3.27,-14.3 0,-14.3 0,-13.7 -3.27,-13.7 ; -3.27,-12.3 0,-12.3 0,-11.7 -3.27,-11.7 ; -3.27,-10.3 0,-10.3 0,-9.7 -3.27,-9.7 ; -3.27,-8.3 0,-8.3 0,-7.7 -3.27,-7.7 ; -3.27,-6.3 0,-6.3 0,-5.7 -3.27,-5.7 ; -3.27,-4.3 0,-4.3 0,-3.7 -3.27,-3.7 ; -3.27,-2.3 0,-2.3 0,-1.7 -3.27,-1.7 ; -3.27,-0.3 0,-0.3 0,0.3 -3.27,0.3 ; -3.27,0.3 -3.27,-47 -9.62,-47 -9.62,1 -3.97,1 -3.27,0.3
  text "'.Designator'" at -5.605,-27.047 h1
Top Courtyard:
  lines w0.254: -10.15,-47.5 1.5,-47.5 1.5,1.5 -10.15,1.5 -10.15,-47.5
Top Designator:
  text ".Designator" at -11.943,-23.508 h1.52

## PinSocket_2x24_P2.00mm_Vertical [mm]
pads (48):
  rect 1.35x1.35 hole 0.8: 1(0,0)
  round 1.35 hole 0.8: 2(-2,0) 3(0,-2) 4(-2,-2) 5(0,-4) 6(-2,-4) 7(0,-6) 8(-2,-6) 9(0,-8) 10(-2,-8) 11(0,-10) 12(-2,-10) 13(0,-12) 14(-2,-12) 15(0,-14) 16(-2,-14) 17(0,-16) 18(-2,-16) 19(0,-18) 20(-2,-18) 21(0,-20) 22(-2,-20) 23(0,-22) 24(-2,-22) 25(0,-24) 26(-2,-24) 27(0,-26) 28(-2,-26) 29(0,-28) 30(-2,-28) 31(0,-30) 32(-2,-30) 33(0,-32) 34(-2,-32) 35(0,-34) 36(-2,-34) 37(0,-36) 38(-2,-36) 39(0,-38) 40(-2,-38) 41(0,-40) 42(-2,-40) 43(0,-42) 44(-2,-42) 45(0,-44) 46(-2,-44) 47(0,-46) 48(-2,-46)
F.SilkS:
  lines w0.254: 0,1.06 1.06,1.06 1.06,0 ; -3.06,-47.06 1.06,-47.06 1.06,-1 -1,-1 -1,1.06 -3.06,1.06 -3.06,-47.06
Top Assembly:
  lines w0.254: -3,-47 1,-47 1,0 0,1 -3,1 -3,-47
  text "'.Designator'" at -0.16,-27.047 h1
Top Courtyard:
  lines w0.254: -3.5,-47.5 1.5,-47.5 1.5,1.5 -3.5,1.5 -3.5,-47.5
Top Designator:
  text ".Designator" at -8.618,-23.508 h1.52

## PinSocket_2x24_P2.00mm_Vertical_SMD [mm]
pads (48):
  rect 2.75x1 smd: 1(3.125,23) 2(-3.125,23) 3(3.125,21) 4(-3.125,21) 5(3.125,19) 6(-3.125,19) 7(3.125,17) 8(-3.125,17) 9(3.125,15) 10(-3.125,15) 11(3.125,13) 12(-3.125,13) 13(3.125,11) 14(-3.125,11) 15(3.125,9) 16(-3.125,9) 17(3.125,7) 18(-3.125,7) 19(3.125,5) 20(-3.125,5) 21(3.125,3) 22(-3.125,3) 23(3.125,1) 24(-3.125,1) 25(3.125,-1) 26(-3.125,-1) 27(3.125,-3) 28(-3.125,-3) 29(3.125,-5) 30(-3.125,-5) 31(3.125,-7) 32(-3.125,-7) 33(3.125,-9) 34(-3.125,-9) 35(3.125,-11) 36(-3.125,-11) 37(3.125,-13) 38(-3.125,-13) 39(3.125,-15) 40(-3.125,-15) 41(3.125,-17) 42(-3.125,-17) 43(3.125,-19) 44(-3.125,-19) 45(3.125,-21) 46(-3.125,-21) 47(3.125,-23) 48(-3.125,-23)
F.SilkS:
  lines w0.254: -2.06,-23.76 -2.06,-24.06 2.06,-24.06 2.06,-23.76 ; -2.06,-22.24 -2.06,-21.76 ; -2.06,-20.24 -2.06,-19.76 ; -2.06,-18.24 -2.06,-17.76 ; -2.06,-16.24 -2.06,-15.76 ; -2.06,-14.24 -2.06,-13.76 ; -2.06,-12.24 -2.06,-11.76 ; -2.06,-10.24 -2.06,-9.76 ; -2.06,-8.24 -2.06,-7.76 ; -2.06,-6.24 -2.06,-5.76 ; -2.06,-4.24 -2.06,-3.76 ; -2.06,-2.24 -2.06,-1.76 ; -2.06,-0.24 -2.06,0.24 ; -2.06,1.76 -2.06,2.24 ; -2.06,3.76 -2.06,4.24 ; -2.06,5.76 -2.06,6.24 ; -2.06,7.76 -2.06,8.24 ; -2.06,9.76 -2.06,10.24 ; -2.06,11.76 -2.06,12.24 ; -2.06,13.76 -2.06,14.24 ; -2.06,15.76 -2.06,16.24 ; -2.06,17.76 -2.06,18.24 ; -2.06,19.76 -2.06,20.24 ; -2.06,21.76 -2.06,22.24 ; -2.06,23.76 -2.06,24.06 2.06,24.06 2.06,23.76 4.44,23.76 ; 2.06,-22.24 2.06,-21.76 ; 2.06,-20.24 2.06,-19.76 ; 2.06,-18.24 2.06,-17.76 ; 2.06,-16.24 2.06,-15.76 ; 2.06,-14.24 2.06,-13.76 ; 2.06,-12.24 2.06,-11.76 ; 2.06,-10.24 2.06,-9.76 ; 2.06,-8.24 2.06,-7.76 ; 2.06,-6.24 2.06,-5.76 ; 2.06,-4.24 2.06,-3.76 ; 2.06,-2.24 2.06,-1.76 ; 2.06,-0.24 2.06,0.24 ; 2.06,1.76 2.06,2.24 ; 2.06,3.76 2.06,4.24 ; 2.06,5.76 2.06,6.24 ; 2.06,7.76 2.06,8.24 ; 2.06,9.76 2.06,10.24 ; 2.06,11.76 2.06,12.24 ; 2.06,13.76 2.06,14.24 ; 2.06,15.76 2.06,16.24 ; 2.06,17.76 2.06,18.24 ; 2.06,19.76 2.06,20.24 ; 2.06,21.76 2.06,22.24
Top Assembly:
  lines w0.254: -2,-23.25 -3,-23.25 -3,-22.75 -2,-22.75 ; -2,-21.25 -3,-21.25 -3,-20.75 -2,-20.75 ; -2,-19.25 -3,-19.25 -3,-18.75 -2,-18.75 ; -2,-17.25 -3,-17.25 -3,-16.75 -2,-16.75 ; -2,-15.25 -3,-15.25 -3,-14.75 -2,-14.75 ; -2,-13.25 -3,-13.25 -3,-12.75 -2,-12.75 ; -2,-11.25 -3,-11.25 -3,-10.75 -2,-10.75 ; -2,-9.25 -3,-9.25 -3,-8.75 -2,-8.75 ; -2,-7.25 -3,-7.25 -3,-6.75 -2,-6.75 ; -2,-5.25 -3,-5.25 -3,-4.75 -2,-4.75 ; -2,-3.25 -3,-3.25 -3,-2.75 -2,-2.75 ; -2,-1.25 -3,-1.25 -3,-0.75 -2,-0.75 ; -2,0.75 -3,0.75 -3,1.25 -2,1.25 ; -2,2.75 -3,2.75 -3,3.25 -2,3.25 ; -2,4.75 -3,4.75 -3,5.25 -2,5.25 ; -2,6.75 -3,6.75 -3,7.25 -2,7.25 ; -2,8.75 -3,8.75 -3,9.25 -2,9.25 ; -2,10.75 -3,10.75 -3,11.25 -2,11.25 ; -2,12.75 -3,12.75 -3,13.25 -2,13.25 ; -2,14.75 -3,14.75 -3,15.25 -2,15.25 ; -2,16.75 -3,16.75 -3,17.25 -2,17.25 ; -2,18.75 -3,18.75 -3,19.25 -2,19.25 ; -2,20.75 -3,20.75 -3,21.25 -2,21.25 ; -2,22.75 -3,22.75 -3,23.25 -2,23.25 ; 2,-23.25 3,-23.25 3,-22.75 2,-22.75 ; 2,-21.25 3,-21.25 3,-20.75 2,-20.75 ; 2,-19.25 3,-19.25 3,-18.75 2,-18.75 ; 2,-17.25 3,-17.25 3,-16.75 2,-16.75 ; 2,-15.25 3,-15.25 3,-14.75 2,-14.75 ; 2,-13.25 3,-13.25 3,-12.75 2,-12.75 ; 2,-11.25 3,-11.25 3,-10.75 2,-10.75 ; 2,-9.25 3,-9.25 3,-8.75 2,-8.75 ; 2,-7.25 3,-7.25 3,-6.75 2,-6.75 ; 2,-5.25 3,-5.25 3,-4.75 2,-4.75 ; 2,-3.25 3,-3.25 3,-2.75 2,-2.75 ; 2,-1.25 3,-1.25 3,-0.75 2,-0.75 ; 2,0.75 3,0.75 3,1.25 2,1.25 ; 2,2.75 3,2.75 3,3.25 2,3.25 ; 2,4.75 3,4.75 3,5.25 2,5.25 ; 2,6.75 3,6.75 3,7.25 2,7.25 ; 2,8.75 3,8.75 3,9.25 2,9.25 ; 2,10.75 3,10.75 3,11.25 2,11.25 ; 2,12.75 3,12.75 3,13.25 2,13.25 ; 2,14.75 3,14.75 3,15.25 2,15.25 ; 2,16.75 3,16.75 3,17.25 2,17.25 ; 2,18.75 3,18.75 3,19.25 2,19.25 ; 2,20.75 3,20.75 3,21.25 2,21.25 ; 2,22.75 3,22.75 3,23.25 2,23.25 ; -2,-24 2,-24 2,23 1,24 -2,24 -2,-24
  text "'.Designator'" at 0.84,-4.047 h1
Top Courtyard:
  lines w0.254: -5,-24.5 5,-24.5 5,24.5 -5,24.5 -5,-24.5
Top Designator:
  text ".Designator" at -7.618,-0.508 h1.52

## PinSocket_2x25_P2.00mm_Horizontal [mm]
pads (50):
  rect 1.35x1.35 hole 0.8: 1(0,0)
  round 1.35 hole 0.8: 2(-2,0) 3(0,-2) 4(-2,-2) 5(0,-4) 6(-2,-4) 7(0,-6) 8(-2,-6) 9(0,-8) 10(-2,-8) 11(0,-10) 12(-2,-10) 13(0,-12) 14(-2,-12) 15(0,-14) 16(-2,-14) 17(0,-16) 18(-2,-16) 19(0,-18) 20(-2,-18) 21(0,-20) 22(-2,-20) 23(0,-22) 24(-2,-22) 25(0,-24) 26(-2,-24) 27(0,-26) 28(-2,-26) 29(0,-28) 30(-2,-28) 31(0,-30) 32(-2,-30) 33(0,-32) 34(-2,-32) 35(0,-34) 36(-2,-34) 37(0,-36) 38(-2,-36) 39(0,-38) 40(-2,-38) 41(0,-40) 42(-2,-40) 43(0,-42) 44(-2,-42) 45(0,-44) 46(-2,-44) 47(0,-46) 48(-2,-46) 49(0,-48) 50(-2,-48)
F.SilkS:
  lines w0.254: -9.68,-47 -3.21,-47 ; -9.68,-45 -3.21,-45 ; -9.68,-43 -3.21,-43 ; -9.68,-41 -3.21,-41 ; -9.68,-39 -3.21,-39 ; -9.68,-37 -3.21,-37 ; -9.68,-35 -3.21,-35 ; -9.68,-33 -3.21,-33 ; -9.68,-31 -3.21,-31 ; -9.68,-29 -3.21,-29 ; -9.68,-27 -3.21,-27 ; -9.68,-25 -3.21,-25 ; -9.68,-23 -3.21,-23 ; -9.68,-21 -3.21,-21 ; -9.68,-19 -3.21,-19 ; -9.68,-17 -3.21,-17 ; -9.68,-15 -3.21,-15 ; -9.68,-13 -3.21,-13 ; -9.68,-11 -3.21,-11 ; -9.68,-9 -3.21,-9 ; -9.68,-7 -3.21,-7 ; -9.68,-5 -3.21,-5 ; -9.68,-3 -3.21,-3 ; -9.68,-1 -3.21,-1 ; -9.68,-0.886 -3.21,-0.886 ; -9.68,-0.772 -3.21,-0.772 ; -9.68,-0.658 -3.21,-0.658 ; -9.68,-0.544 -3.21,-0.544 ; -9.68,-0.429 -3.21,-0.429 ; -9.68,-0.315 -3.21,-0.315 ; -9.68,-0.201 -3.21,-0.201 ; -9.68,-0.087 -3.21,-0.087 ; -9.68,0.027 -3.21,0.027 ; -9.68,0.141 -3.21,0.141 ; -9.68,0.255 -3.21,0.255 ; -9.68,0.369 -3.21,0.369 ; -9.68,0.484 -3.21,0.484 ; -9.68,0.598 -3.21,0.598 ; -9.68,0.712 -3.21,0.712 ; -9.68,0.826 -3.21,0.826 ; -9.68,0.94 -3.21,0.94 ; -3.21,-48.36 -2.863,-48.36 ; -3.21,-47.64 -2.863,-47.64 ; -3.21,-46.36 -2.863,-46.36 ; -3.21,-45.64 -2.863,-45.64 ; -3.21,-44.36 -2.863,-44.36 ; -3.21,-43.64 -2.863,-43.64 ; -3.21,-42.36 -2.863,-42.36 ; -3.21,-41.64 -2.863,-41.64 ; -3.21,-40.36 -2.863,-40.36 ; -3.21,-39.64 -2.863,-39.64 ; -3.21,-38.36 -2.863,-38.36 ; -3.21,-37.64 -2.863,-37.64 ; -3.21,-36.36 -2.863,-36.36 ; -3.21,-35.64 -2.863,-35.64 ; -3.21,-34.36 -2.863,-34.36 ; -3.21,-33.64 -2.863,-33.64 ; -3.21,-32.36 -2.863,-32.36 ; -3.21,-31.64 -2.863,-31.64 ; -3.21,-30.36 -2.863,-30.36 ; -3.21,-29.64 -2.863,-29.64 ; -3.21,-28.36 -2.863,-28.36 ; -3.21,-27.64 -2.863,-27.64 ; -3.21,-26.36 -2.863,-26.36 ; -3.21,-25.64 -2.863,-25.64 ; -3.21,-24.36 -2.863,-24.36 ; -3.21,-23.64 -2.863,-23.64 ; -3.21,-22.36 -2.863,-22.36 ; -3.21,-21.64 -2.863,-21.64 ; -3.21,-20.36 -2.863,-20.36 ; -3.21,-19.64 -2.863,-19.64 ; -3.21,-18.36 -2.863,-18.36 ; -3.21,-17.64 -2.863,-17.64 ; -3.21,-16.36 -2.863,-16.36 ; -3.21,-15.64 -2.863,-15.64 ; -3.21,-14.36 -2.863,-14.36 ; -3.21,-13.64 -2.863,-13.64 ; -3.21,-12.36 -2.863,-12.36 ; -3.21,-11.64 -2.863,-11.64 ; -3.21,-10.36 -2.863,-10.36 ; -3.21,-9.64 -2.863,-9.64 ; -3.21,-8.36 -2.863,-8.36 ; -3.21,-7.64 -2.863,-7.64 ; -3.21,-6.36 -2.863,-6.36 ; -3.21,-5.64 -2.863,-5.64 ; -3.21,-4.36 -2.863,-4.36 ; -3.21,-3.64 -2.863,-3.64 ; -3.21,-2.36 -2.863,-2.36 ; -3.21,-1.64 -2.863,-1.64 ; -3.21,-0.36 -2.863,-0.36 ; -3.21,0.36 -2.863,0.36 ; -1.137,-48.36 -0.863,-48.36 ; -1.137,-47.64 -0.863,-47.64 ; -1.137,-46.36 -0.863,-46.36 ; -1.137,-45.64 -0.863,-45.64 ; -1.137,-44.36 -0.863,-44.36 ; -1.137,-43.64 -0.863,-43.64 ; -1.137,-42.36 -0.863,-42.36 ; -1.137,-41.64 -0.863,-41.64 ; -1.137,-40.36 -0.863,-40.36 ; -1.137,-39.64 -0.863,-39.64 ; -1.137,-38.36 -0.863,-38.36 ; -1.137,-37.64 -0.863,-37.64 ; -1.137,-36.36 -0.863,-36.36 ; -1.137,-35.64 -0.863,-35.64 ; -1.137,-34.36 -0.863,-34.36 ; -1.137,-33.64 -0.863,-33.64 ; -1.137,-32.36 -0.863,-32.36 ; -1.137,-31.64 -0.863,-31.64 ; -1.137,-30.36 -0.863,-30.36 ; -1.137,-29.64 -0.863,-29.64 ; -1.137,-28.36 -0.863,-28.36 ; -1.137,-27.64 -0.863,-27.64 ; -1.137,-26.36 -0.863,-26.36 ; -1.137,-25.64 -0.863,-25.64 ; -1.137,-24.36 -0.863,-24.36 ; -1.137,-23.64 -0.863,-23.64 ; -1.137,-22.36 -0.863,-22.36 ; -1.137,-21.64 -0.863,-21.64 ; -1.137,-20.36 -0.863,-20.36 ; -1.137,-19.64 -0.863,-19.64 ; -1.137,-18.36 -0.863,-18.36 ; -1.137,-17.64 -0.863,-17.64 ; -1.137,-16.36 -0.863,-16.36 ; -1.137,-15.64 -0.863,-15.64 ; -1.137,-14.36 -0.863,-14.36 ; -1.137,-13.64 -0.863,-13.64 ; -1.137,-12.36 -0.863,-12.36 ; -1.137,-11.64 -0.863,-11.64 ; -1.137,-10.36 -0.863,-10.36 ; -1.137,-9.64 -0.863,-9.64 ; -1.137,-8.36 -0.863,-8.36 ; -1.137,-7.64 -0.863,-7.64 ; -1.137,-6.36 -0.863,-6.36 ; -1.137,-5.64 -0.863,-5.64 ; -1.137,-4.36 -0.863,-4.36 ; -1.137,-3.64 -0.863,-3.64 ; -1.137,-2.36 -0.863,-2.36 ; -1.137,-1.64 -0.863,-1.64 ; -1.137,-0.36 -0.935,-0.36 ; -1.137,0.36 -0.935,0.36 ; 0,1.06 0.935,1.06 0.935,0 ; -9.68,-49.06 -3.21,-49.06 -3.21,1.06 -9.68,1.06 -9.68,-49.06
Top Assembly:
  lines w0.254: -3.27,-48.3 0,-48.3 0,-47.7 -3.27,-47.7 ; -3.27,-46.3 0,-46.3 0,-45.7 -3.27,-45.7 ; -3.27,-44.3 0,-44.3 0,-43.7 -3.27,-43.7 ; -3.27,-42.3 0,-42.3 0,-41.7 -3.27,-41.7 ; -3.27,-40.3 0,-40.3 0,-39.7 -3.27,-39.7 ; -3.27,-38.3 0,-38.3 0,-37.7 -3.27,-37.7 ; -3.27,-36.3 0,-36.3 0,-35.7 -3.27,-35.7 ; -3.27,-34.3 0,-34.3 0,-33.7 -3.27,-33.7 ; -3.27,-32.3 0,-32.3 0,-31.7 -3.27,-31.7 ; -3.27,-30.3 0,-30.3 0,-29.7 -3.27,-29.7 ; -3.27,-28.3 0,-28.3 0,-27.7 -3.27,-27.7 ; -3.27,-26.3 0,-26.3 0,-25.7 -3.27,-25.7 ; -3.27,-24.3 0,-24.3 0,-23.7 -3.27,-23.7 ; -3.27,-22.3 0,-22.3 0,-21.7 -3.27,-21.7 ; -3.27,-20.3 0,-20.3 0,-19.7 -3.27,-19.7 ; -3.27,-18.3 0,-18.3 0,-17.7 -3.27,-17.7 ; -3.27,-16.3 0,-16.3 0,-15.7 -3.27,-15.7 ; -3.27,-14.3 0,-14.3 0,-13.7 -3.27,-13.7 ; -3.27,-12.3 0,-12.3 0,-11.7 -3.27,-11.7 ; -3.27,-10.3 0,-10.3 0,-9.7 -3.27,-9.7 ; -3.27,-8.3 0,-8.3 0,-7.7 -3.27,-7.7 ; -3.27,-6.3 0,-6.3 0,-5.7 -3.27,-5.7 ; -3.27,-4.3 0,-4.3 0,-3.7 -3.27,-3.7 ; -3.27,-2.3 0,-2.3 0,-1.7 -3.27,-1.7 ; -3.27,-0.3 0,-0.3 0,0.3 -3.27,0.3 ; -3.27,0.3 -3.27,-49 -9.62,-49 -9.62,1 -3.97,1 -3.27,0.3
  text "'.Designator'" at -5.605,-28.047 h1
Top Courtyard:
  lines w0.254: -10.15,-49.5 1.5,-49.5 1.5,1.5 -10.15,1.5 -10.15,-49.5
Top Designator:
  text ".Designator" at -11.943,-24.508 h1.52

## PinSocket_2x25_P2.00mm_Vertical [mm]
pads (50):
  rect 1.35x1.35 hole 0.8: 1(0,0)
  round 1.35 hole 0.8: 2(-2,0) 3(0,-2) 4(-2,-2) 5(0,-4) 6(-2,-4) 7(0,-6) 8(-2,-6) 9(0,-8) 10(-2,-8) 11(0,-10) 12(-2,-10) 13(0,-12) 14(-2,-12) 15(0,-14) 16(-2,-14) 17(0,-16) 18(-2,-16) 19(0,-18) 20(-2,-18) 21(0,-20) 22(-2,-20) 23(0,-22) 24(-2,-22) 25(0,-24) 26(-2,-24) 27(0,-26) 28(-2,-26) 29(0,-28) 30(-2,-28) 31(0,-30) 32(-2,-30) 33(0,-32) 34(-2,-32) 35(0,-34) 36(-2,-34) 37(0,-36) 38(-2,-36) 39(0,-38) 40(-2,-38) 41(0,-40) 42(-2,-40) 43(0,-42) 44(-2,-42) 45(0,-44) 46(-2,-44) 47(0,-46) 48(-2,-46) 49(0,-48) 50(-2,-48)
F.SilkS:
  lines w0.254: 0,1.06 1.06,1.06 1.06,0 ; -3.06,-49.06 1.06,-49.06 1.06,-1 -1,-1 -1,1.06 -3.06,1.06 -3.06,-49.06
Top Assembly:
  lines w0.254: -3,-49 1,-49 1,0 0,1 -3,1 -3,-49
  text "'.Designator'" at -0.16,-28.047 h1
Top Courtyard:
  lines w0.254: -3.5,-49.5 1.5,-49.5 1.5,1.5 -3.5,1.5 -3.5,-49.5
Top Designator:
  text ".Designator" at -8.618,-24.508 h1.52

## PinSocket_2x25_P2.00mm_Vertical_SMD [mm]
pads (50):
  rect 2.75x1 smd: 1(3.125,24) 2(-3.125,24) 3(3.125,22) 4(-3.125,22) 5(3.125,20) 6(-3.125,20) 7(3.125,18) 8(-3.125,18) 9(3.125,16) 10(-3.125,16) 11(3.125,14) 12(-3.125,14) 13(3.125,12) 14(-3.125,12) 15(3.125,10) 16(-3.125,10) 17(3.125,8) 18(-3.125,8) 19(3.125,6) 20(-3.125,6) 21(3.125,4) 22(-3.125,4) 23(3.125,2) 24(-3.125,2) 25(3.125,0) 26(-3.125,0) 27(3.125,-2) 28(-3.125,-2) 29(3.125,-4) 30(-3.125,-4) 31(3.125,-6) 32(-3.125,-6) 33(3.125,-8) 34(-3.125,-8) 35(3.125,-10) 36(-3.125,-10) 37(3.125,-12) 38(-3.125,-12) 39(3.125,-14) 40(-3.125,-14) 41(3.125,-16) 42(-3.125,-16) 43(3.125,-18) 44(-3.125,-18) 45(3.125,-20) 46(-3.125,-20) 47(3.125,-22) 48(-3.125,-22) 49(3.125,-24) 50(-3.125,-24)
F.SilkS:
  lines w0.254: -2.06,-24.76 -2.06,-25.06 2.06,-25.06 2.06,-24.76 ; -2.06,-23.24 -2.06,-22.76 ; -2.06,-21.24 -2.06,-20.76 ; -2.06,-19.24 -2.06,-18.76 ; -2.06,-17.24 -2.06,-16.76 ; -2.06,-15.24 -2.06,-14.76 ; -2.06,-13.24 -2.06,-12.76 ; -2.06,-11.24 -2.06,-10.76 ; -2.06,-9.24 -2.06,-8.76 ; -2.06,-7.24 -2.06,-6.76 ; -2.06,-5.24 -2.06,-4.76 ; -2.06,-3.24 -2.06,-2.76 ; -2.06,-1.24 -2.06,-0.76 ; -2.06,0.76 -2.06,1.24 ; -2.06,2.76 -2.06,3.24 ; -2.06,4.76 -2.06,5.24 ; -2.06,6.76 -2.06,7.24 ; -2.06,8.76 -2.06,9.24 ; -2.06,10.76 -2.06,11.24 ; -2.06,12.76 -2.06,13.24 ; -2.06,14.76 -2.06,15.24 ; -2.06,16.76 -2.06,17.24 ; -2.06,18.76 -2.06,19.24 ; -2.06,20.76 -2.06,21.24 ; -2.06,22.76 -2.06,23.24 ; -2.06,24.76 -2.06,25.06 2.06,25.06 2.06,24.76 4.44,24.76 ; 2.06,-23.24 2.06,-22.76 ; 2.06,-21.24 2.06,-20.76 ; 2.06,-19.24 2.06,-18.76 ; 2.06,-17.24 2.06,-16.76 ; 2.06,-15.24 2.06,-14.76 ; 2.06,-13.24 2.06,-12.76 ; 2.06,-11.24 2.06,-10.76 ; 2.06,-9.24 2.06,-8.76 ; 2.06,-7.24 2.06,-6.76 ; 2.06,-5.24 2.06,-4.76 ; 2.06,-3.24 2.06,-2.76 ; 2.06,-1.24 2.06,-0.76 ; 2.06,0.76 2.06,1.24 ; 2.06,2.76 2.06,3.24 ; 2.06,4.76 2.06,5.24 ; 2.06,6.76 2.06,7.24 ; 2.06,8.76 2.06,9.24 ; 2.06,10.76 2.06,11.24 ; 2.06,12.76 2.06,13.24 ; 2.06,14.76 2.06,15.24 ; 2.06,16.76 2.06,17.24 ; 2.06,18.76 2.06,19.24 ; 2.06,20.76 2.06,21.24 ; 2.06,22.76 2.06,23.24
Top Assembly:
  drawing of 155 lines, arcs and shapes, not listed
  text "'.Designator'" at 0.84,-4.047 h1
Top Courtyard:
  lines w0.254: -5,-25.5 5,-25.5 5,25.5 -5,25.5 -5,-25.5
Top Designator:
  text ".Designator" at -7.618,-0.508 h1.52

## PinSocket_2x26_P2.00mm_Horizontal [mm]
pads (52):
  rect 1.35x1.35 hole 0.8: 1(0,0)
  round 1.35 hole 0.8: 2(-2,0) 3(0,-2) 4(-2,-2) 5(0,-4) 6(-2,-4) 7(0,-6) 8(-2,-6) 9(0,-8) 10(-2,-8) 11(0,-10) 12(-2,-10) 13(0,-12) 14(-2,-12) 15(0,-14) 16(-2,-14) 17(0,-16) 18(-2,-16) 19(0,-18) 20(-2,-18) 21(0,-20) 22(-2,-20) 23(0,-22) 24(-2,-22) 25(0,-24) 26(-2,-24) 27(0,-26) 28(-2,-26) 29(0,-28) 30(-2,-28) 31(0,-30) 32(-2,-30) 33(0,-32) 34(-2,-32) 35(0,-34) 36(-2,-34) 37(0,-36) 38(-2,-36) 39(0,-38) 40(-2,-38) 41(0,-40) 42(-2,-40) 43(0,-42) 44(-2,-42) 45(0,-44) 46(-2,-44) 47(0,-46) 48(-2,-46) 49(0,-48) 50(-2,-48) 51(0,-50) 52(-2,-50)
F.SilkS:
  drawing of 152 lines, arcs and shapes, not listed
Top Assembly:
  lines w0.254: -3.27,-50.3 0,-50.3 0,-49.7 -3.27,-49.7 ; -3.27,-48.3 0,-48.3 0,-47.7 -3.27,-47.7 ; -3.27,-46.3 0,-46.3 0,-45.7 -3.27,-45.7 ; -3.27,-44.3 0,-44.3 0,-43.7 -3.27,-43.7 ; -3.27,-42.3 0,-42.3 0,-41.7 -3.27,-41.7 ; -3.27,-40.3 0,-40.3 0,-39.7 -3.27,-39.7 ; -3.27,-38.3 0,-38.3 0,-37.7 -3.27,-37.7 ; -3.27,-36.3 0,-36.3 0,-35.7 -3.27,-35.7 ; -3.27,-34.3 0,-34.3 0,-33.7 -3.27,-33.7 ; -3.27,-32.3 0,-32.3 0,-31.7 -3.27,-31.7 ; -3.27,-30.3 0,-30.3 0,-29.7 -3.27,-29.7 ; -3.27,-28.3 0,-28.3 0,-27.7 -3.27,-27.7 ; -3.27,-26.3 0,-26.3 0,-25.7 -3.27,-25.7 ; -3.27,-24.3 0,-24.3 0,-23.7 -3.27,-23.7 ; -3.27,-22.3 0,-22.3 0,-21.7 -3.27,-21.7 ; -3.27,-20.3 0,-20.3 0,-19.7 -3.27,-19.7 ; -3.27,-18.3 0,-18.3 0,-17.7 -3.27,-17.7 ; -3.27,-16.3 0,-16.3 0,-15.7 -3.27,-15.7 ; -3.27,-14.3 0,-14.3 0,-13.7 -3.27,-13.7 ; -3.27,-12.3 0,-12.3 0,-11.7 -3.27,-11.7 ; -3.27,-10.3 0,-10.3 0,-9.7 -3.27,-9.7 ; -3.27,-8.3 0,-8.3 0,-7.7 -3.27,-7.7 ; -3.27,-6.3 0,-6.3 0,-5.7 -3.27,-5.7 ; -3.27,-4.3 0,-4.3 0,-3.7 -3.27,-3.7 ; -3.27,-2.3 0,-2.3 0,-1.7 -3.27,-1.7 ; -3.27,-0.3 0,-0.3 0,0.3 -3.27,0.3 ; -3.27,0.3 -3.27,-51 -9.62,-51 -9.62,1 -3.97,1 -3.27,0.3
  text "'.Designator'" at -5.605,-29.047 h1
Top Courtyard:
  lines w0.254: -10.15,-51.5 1.5,-51.5 1.5,1.5 -10.15,1.5 -10.15,-51.5
Top Designator:
  text ".Designator" at -11.943,-25.508 h1.52

## PinSocket_2x26_P2.00mm_Vertical [mm]
pads (52):
  rect 1.35x1.35 hole 0.8: 1(0,0)
  round 1.35 hole 0.8: 2(-2,0) 3(0,-2) 4(-2,-2) 5(0,-4) 6(-2,-4) 7(0,-6) 8(-2,-6) 9(0,-8) 10(-2,-8) 11(0,-10) 12(-2,-10) 13(0,-12) 14(-2,-12) 15(0,-14) 16(-2,-14) 17(0,-16) 18(-2,-16) 19(0,-18) 20(-2,-18) 21(0,-20) 22(-2,-20) 23(0,-22) 24(-2,-22) 25(0,-24) 26(-2,-24) 27(0,-26) 28(-2,-26) 29(0,-28) 30(-2,-28) 31(0,-30) 32(-2,-30) 33(0,-32) 34(-2,-32) 35(0,-34) 36(-2,-34) 37(0,-36) 38(-2,-36) 39(0,-38) 40(-2,-38) 41(0,-40) 42(-2,-40) 43(0,-42) 44(-2,-42) 45(0,-44) 46(-2,-44) 47(0,-46) 48(-2,-46) 49(0,-48) 50(-2,-48) 51(0,-50) 52(-2,-50)
F.SilkS:
  lines w0.254: 0,1.06 1.06,1.06 1.06,0 ; -3.06,-51.06 1.06,-51.06 1.06,-1 -1,-1 -1,1.06 -3.06,1.06 -3.06,-51.06
Top Assembly:
  lines w0.254: -3,-51 1,-51 1,0 0,1 -3,1 -3,-51
  text "'.Designator'" at -0.16,-29.047 h1
Top Courtyard:
  lines w0.254: -3.5,-51.5 1.5,-51.5 1.5,1.5 -3.5,1.5 -3.5,-51.5
Top Designator:
  text ".Designator" at -8.618,-25.508 h1.52

## PinSocket_2x26_P2.00mm_Vertical_SMD [mm]
pads (52):
  rect 2.75x1 smd: 1(3.125,25) 2(-3.125,25) 3(3.125,23) 4(-3.125,23) 5(3.125,21) 6(-3.125,21) 7(3.125,19) 8(-3.125,19) 9(3.125,17) 10(-3.125,17) 11(3.125,15) 12(-3.125,15) 13(3.125,13) 14(-3.125,13) 15(3.125,11) 16(-3.125,11) 17(3.125,9) 18(-3.125,9) 19(3.125,7) 20(-3.125,7) 21(3.125,5) 22(-3.125,5) 23(3.125,3) 24(-3.125,3) 25(3.125,1) 26(-3.125,1) 27(3.125,-1) 28(-3.125,-1) 29(3.125,-3) 30(-3.125,-3) 31(3.125,-5) 32(-3.125,-5) 33(3.125,-7) 34(-3.125,-7) 35(3.125,-9) 36(-3.125,-9) 37(3.125,-11) 38(-3.125,-11) 39(3.125,-13) 40(-3.125,-13) 41(3.125,-15) 42(-3.125,-15) 43(3.125,-17) 44(-3.125,-17) 45(3.125,-19) 46(-3.125,-19) 47(3.125,-21) 48(-3.125,-21) 49(3.125,-23) 50(-3.125,-23) 51(3.125,-25) 52(-3.125,-25)
F.SilkS:
  lines w0.254: -2.06,-25.76 -2.06,-26.06 2.06,-26.06 2.06,-25.76 ; -2.06,-24.24 -2.06,-23.76 ; -2.06,-22.24 -2.06,-21.76 ; -2.06,-20.24 -2.06,-19.76 ; -2.06,-18.24 -2.06,-17.76 ; -2.06,-16.24 -2.06,-15.76 ; -2.06,-14.24 -2.06,-13.76 ; -2.06,-12.24 -2.06,-11.76 ; -2.06,-10.24 -2.06,-9.76 ; -2.06,-8.24 -2.06,-7.76 ; -2.06,-6.24 -2.06,-5.76 ; -2.06,-4.24 -2.06,-3.76 ; -2.06,-2.24 -2.06,-1.76 ; -2.06,-0.24 -2.06,0.24 ; -2.06,1.76 -2.06,2.24 ; -2.06,3.76 -2.06,4.24 ; -2.06,5.76 -2.06,6.24 ; -2.06,7.76 -2.06,8.24 ; -2.06,9.76 -2.06,10.24 ; -2.06,11.76 -2.06,12.24 ; -2.06,13.76 -2.06,14.24 ; -2.06,15.76 -2.06,16.24 ; -2.06,17.76 -2.06,18.24 ; -2.06,19.76 -2.06,20.24 ; -2.06,21.76 -2.06,22.24 ; -2.06,23.76 -2.06,24.24 ; -2.06,25.76 -2.06,26.06 2.06,26.06 2.06,25.76 4.44,25.76 ; 2.06,-24.24 2.06,-23.76 ; 2.06,-22.24 2.06,-21.76 ; 2.06,-20.24 2.06,-19.76 ; 2.06,-18.24 2.06,-17.76 ; 2.06,-16.24 2.06,-15.76 ; 2.06,-14.24 2.06,-13.76 ; 2.06,-12.24 2.06,-11.76 ; 2.06,-10.24 2.06,-9.76 ; 2.06,-8.24 2.06,-7.76 ; 2.06,-6.24 2.06,-5.76 ; 2.06,-4.24 2.06,-3.76 ; 2.06,-2.24 2.06,-1.76 ; 2.06,-0.24 2.06,0.24 ; 2.06,1.76 2.06,2.24 ; 2.06,3.76 2.06,4.24 ; 2.06,5.76 2.06,6.24 ; 2.06,7.76 2.06,8.24 ; 2.06,9.76 2.06,10.24 ; 2.06,11.76 2.06,12.24 ; 2.06,13.76 2.06,14.24 ; 2.06,15.76 2.06,16.24 ; 2.06,17.76 2.06,18.24 ; 2.06,19.76 2.06,20.24 ; 2.06,21.76 2.06,22.24 ; 2.06,23.76 2.06,24.24
Top Assembly:
  drawing of 161 lines, arcs and shapes, not listed
  text "'.Designator'" at 0.84,-4.047 h1
Top Courtyard:
  lines w0.254: -5,-26.5 5,-26.5 5,26.5 -5,26.5 -5,-26.5
Top Designator:
  text ".Designator" at -7.618,-0.508 h1.52